# Altium schematic symbol library mech.SchLib: 4 symbols
Pins are listed as number, name and electrical type; pins without a type are passive.

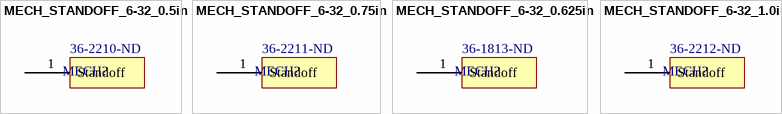
[diagram p0: symbols MECH_STANDOFF_6-32_0.5in to MECH_STANDOFF_6-32_1.0in]

## MECH_STANDOFF_6-32_0.5in
designator MECH?, comment Supplier Part Number 1: 36-2210-ND  (hidden comment: 2210)
Hex Standoff Threaded #6-32 Aluminum 0.500" (12.70mm) 1/2"; Supplier 1: Digi-Key
footprint STANDOFF_6-32_0.5in (Standoff for 6-32 screw, 0.5 inches tall)
pins: 1 Standoff

## MECH_STANDOFF_6-32_0.75in
designator MECH?, comment Supplier Part Number 1: 36-2211-ND  (hidden comment: 2211)
Hex Standoff Threaded #6-32 Aluminum 0.750" (19.05mm) 3/4"; Supplier 1: Digi-Key
footprint STANDOFF_6-32_0.75in (Standoff for 6-32 screw, 0.75 inches tall)
pins: 1 Standoff

## MECH_STANDOFF_6-32_0.625in
designator MECH?, comment Supplier Part Number 1: 36-1813-ND  (hidden comment: 1813)
Hex Standoff Threaded #6-32 Aluminum 0.625" (15.88mm) 5/8"; Supplier 1: Digi-Key
footprint STANDOFF_6-32_0.625in (Standoff for 6-32 screw, 0.625 inches tall)
pins: 1 Standoff

## MECH_STANDOFF_6-32_1.0in
designator MECH?, comment Supplier Part Number 1: 36-2212-ND  (hidden comment: 2212)
Hex Standoff Threaded #6-32 Aluminum 1.000" (25.40mm) 1"; Supplier 1: Digi-Key
footprint STANDOFF_6-32_1.0in (Standoff for 6-32 screw, 1.0 inches tall)
pins: 1 Standoff